# EAGLE library part VIC20-EXPANSION (library VIC20-expansion)
44 PIN EDGE CONNECTOR FOR PCB
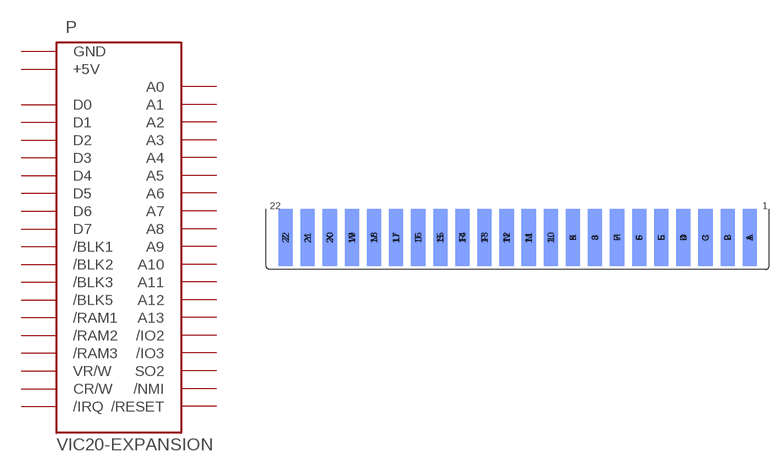
[diagram p0: symbol with the pads of 44PINEDGE; footprint 44PINEDGE]

Designator prefix P

## VIC20-EXPANSION  [44PINEDGE]
1  GND  pas
2  D0  pas
3  D1  pas
4  D2  pas
5  D3  pas
6  D4  pas
7  D5  pas
8  D6  pas
9  D7  pas
10  /BLK1  pas
11  /BLK2  pas
12  /BLK3  pas
13  /BLK5  pas
14  /RAM1  pas
15  /RAM2  pas
16  /RAM3  pas
17  VR/W  pas
18  CR/W  pas
19  /IRQ  pas
21  +5V  pas
22  GND  pas
A  GND  pas
B  A0  pas
C  A1  pas
D  A2  pas
E  A3  pas
F  A4  pas
H  A5  pas
J  A6  pas
K  A7  pas
L  A8  pas
M  A9  pas
N  A10  pas
P  A11  pas
R  A12  pas
S  A13  pas
T  /IO2  pas
U  /IO3  pas
V  SO2  pas
W  /NMI  pas
X  /RESET  pas
Z  GND  pas

## Footprint 44PINEDGE (pad centres in mm)
44 Pin Edge Connector for PCB
smd 2.54 x 10.16: 1 41.605,5.715; 2 37.643,5.715; 3 33.68,5.715; 4 29.718,5.715; 5 25.756,5.715; 6 21.793,5.715; 7 17.831,5.715; 8 13.868,5.715; 9 9.906,5.715; 10 5.944,5.715; 11 1.981,5.715; 12 -1.981,5.715; 13 -5.944,5.715; 14 -9.906,5.715; 15 -13.868,5.715; 16 -17.831,5.715; 17 -21.793,5.715; 18 -25.756,5.715; 19 -29.718,5.715; 20 -33.68,5.715; 21 -37.643,5.715; 22 -41.605,5.715
smd 2.54 x 10.16 bottom: A 41.605,5.715; B 37.643,5.715; C 33.68,5.715; D 29.718,5.715; E 25.756,5.715; F 21.793,5.715; H 17.831,5.715; J 13.868,5.715; K 9.906,5.715; L 5.944,5.715; M 1.981,5.715; N -1.981,5.715; P -5.944,5.715; R -9.906,5.715; S -13.868,5.715; T -17.831,5.715; U -21.793,5.715; V -25.756,5.715; W -29.718,5.715; X -33.68,5.715; Y -37.643,5.715; Z -41.605,5.715